# EAGLE library part KC22 (library bluetooth-kcwirefree)
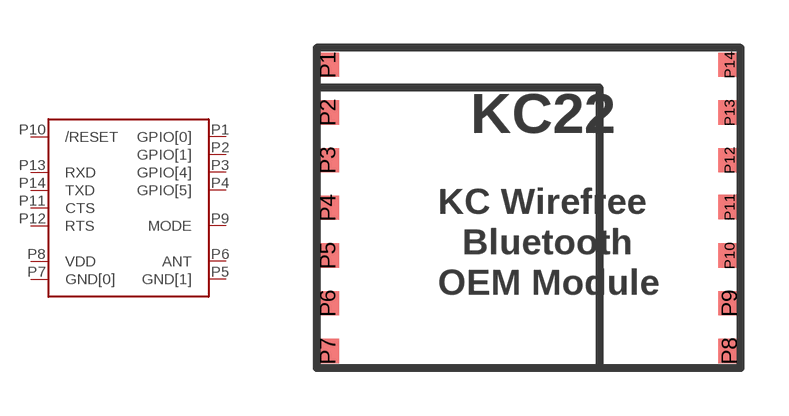
[diagram p1: symbol with the pads of KC22; footprint KC22]

Designator prefix BT

## KC22  [KC22]
P1  GPIO[0]
P2  GPIO[1]
P3  GPIO[4]
P4  GPIO[5]
P5  GND[1]  pwr
P6  ANT  out
P7  GND[0]  pwr
P8  VDD  pwr
P9  MODE  in
P10  /RESET  in
P11  CTS  in
P12  RTS  out
P13  RXD  in
P14  TXD  out

## Footprint KC22 (pad centres in mm)
smd 0.711 x 0.762: P1 0.356,-0.381; P2 0.356,-1.88; P3 0.356,-3.378; P4 0.356,-4.877; P5 0.356,-6.375; P6 0.356,-7.874; P7 0.356,-9.373; P8 12.979,-9.373; P9 12.979,-7.874; P10 12.979,-6.375; P11 12.979,-4.851; P12 12.979,-3.378; P13 12.979,-1.88; P14 12.979,-0.381